# Altium schematic symbol library SCH - MCU - NUVOTON - NUVOTON M030FD2AE.SchLib: 1 symbol
Pins are listed as number, name and electrical type; pins without a type are passive.

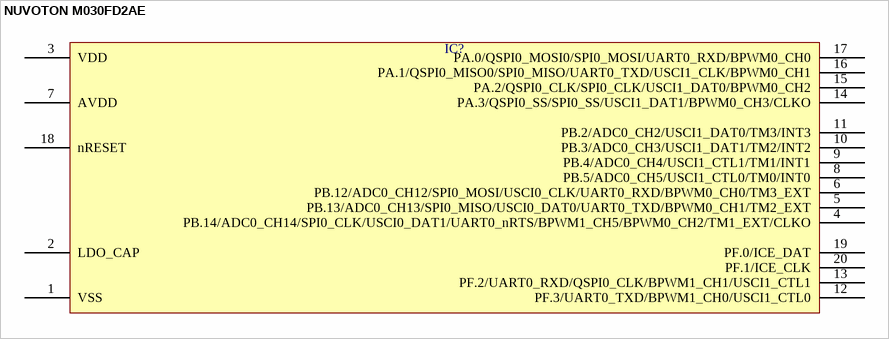
[diagram p0: symbol NUVOTON M030FD2AE]

## NUVOTON M030FD2AE
designator IC?  (value not drawn)
pins: 1 VSS, 2 LDO_CAP, 3 VDD, 4 PB.14/ADC0_CH14/SPI0_CLK/USCI0_DAT1/UART0_nRTS/BPWM1_CH5/BPWM0_CH2/TM1_EXT/CLKO, 5 PB.13/ADC0_CH13/SPI0_MISO/USCI0_DAT0/UART0_TXD/BPWM0_CH1/TM2_EXT, 6 PB.12/ADC0_CH12/SPI0_MOSI/USCI0_CLK/UART0_RXD/BPWM0_CH0/TM3_EXT, 7 AVDD, 8 PB.5/ADC0_CH5/USCI1_CTL0/TM0/INT0, 9 PB.4/ADC0_CH4/USCI1_CTL1/TM1/INT1, 10 PB.3/ADC0_CH3/USCI1_DAT1/TM2/INT2, 11 PB.2/ADC0_CH2/USCI1_DAT0/TM3/INT3, 12 PF.3/UART0_TXD/BPWM1_CH0/USCI1_CTL0, 13 PF.2/UART0_RXD/QSPI0_CLK/BPWM1_CH1/USCI1_CTL1, 14 PA.3/QSPI0_SS/SPI0_SS/USCI1_DAT1/BPWM0_CH3/CLKO, 15 PA.2/QSPI0_CLK/SPI0_CLK/USCI1_DAT0/BPWM0_CH2, 16 PA.1/QSPI0_MISO0/SPI0_MISO/UART0_TXD/USCI1_CLK/BPWM0_CH1, 17 PA.0/QSPI0_MOSI0/SPI0_MOSI/UART0_RXD/BPWM0_CH0, 18 nRESET, 19 PF.0/ICE_DAT, 20 PF.1/ICE_CLK